# Altium schematic symbol library mainLib.SchLib: 178 symbols (part 2 of 2)
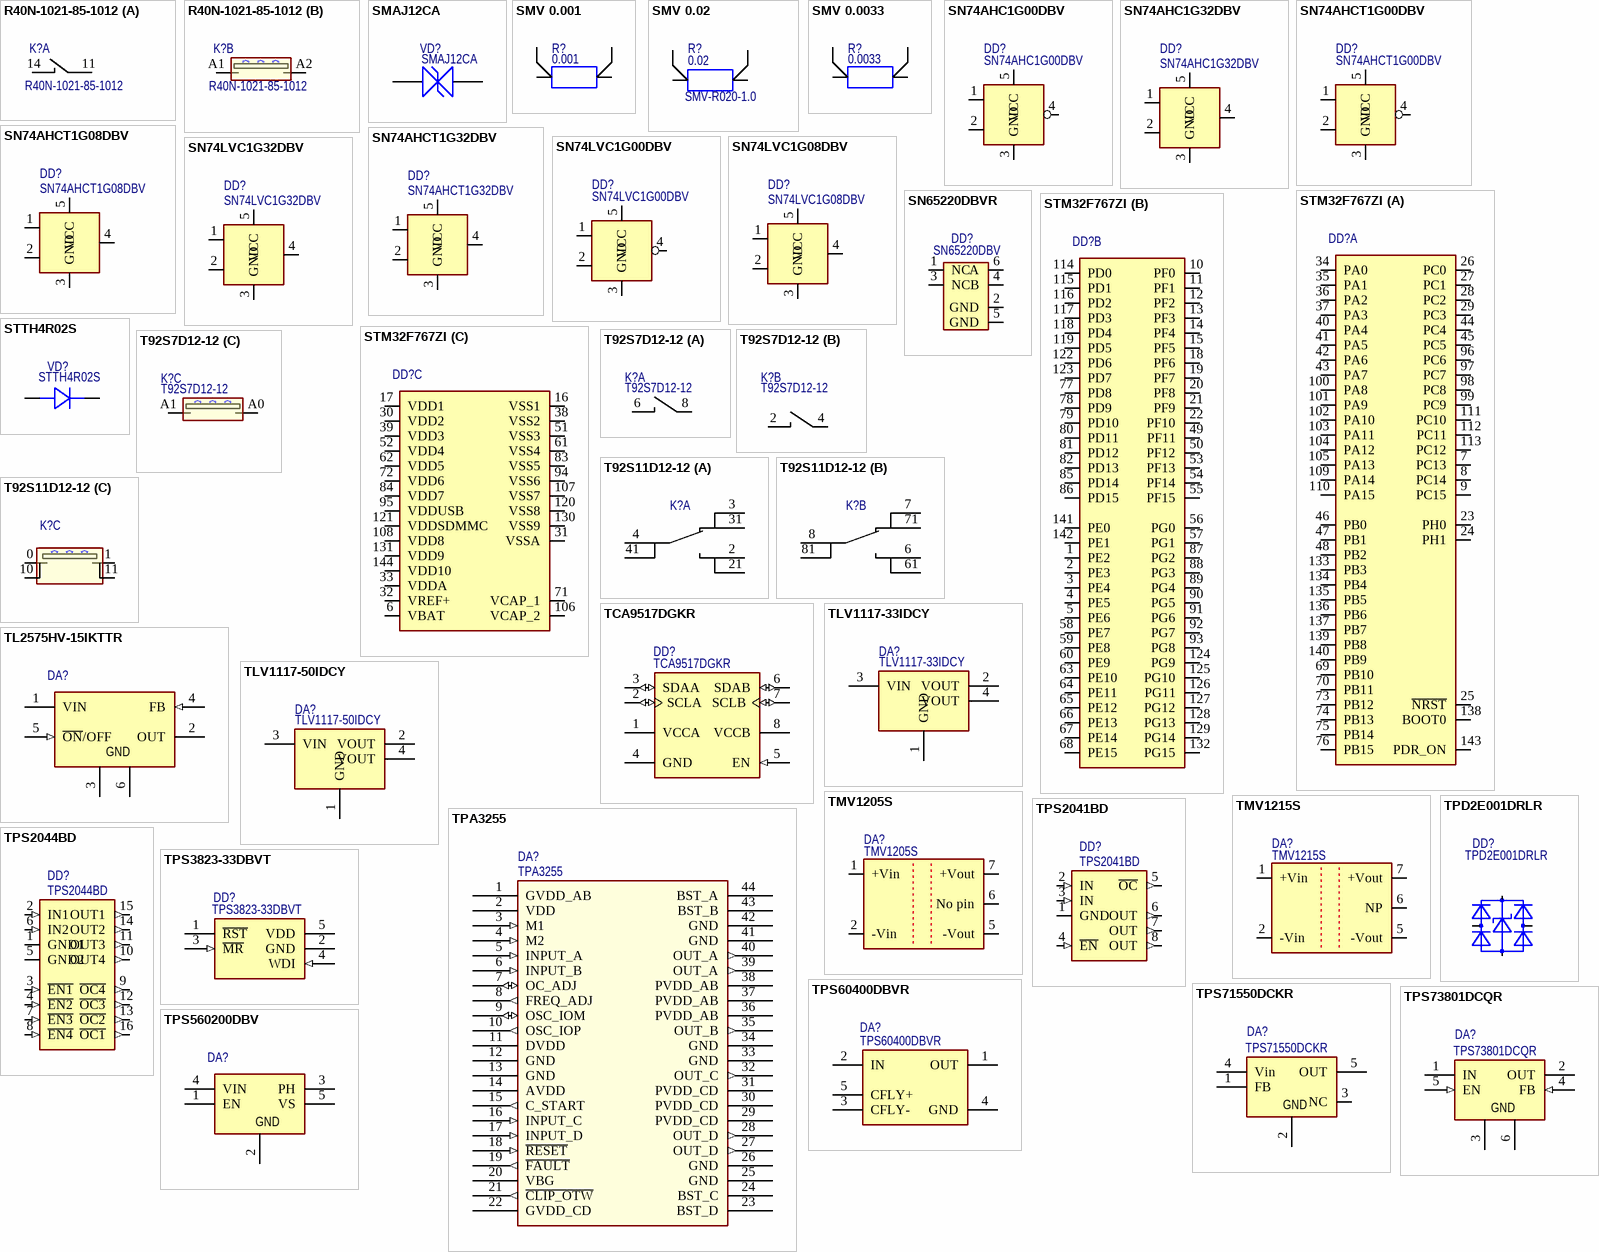
[diagram p6: symbols R40N-1021-85-1012 to TPS560200DBV]

## TPA3255
designator DA?
Power amplifier 2x315 W class-D; Manufacturer: Texas Instruments; PartNumber: TPA3255
footprint TPA3255(TSSOP-44) (TSOP, 44-Leads, Body 14,00x6,10mm, Pitch 0,64mm, IPC Medium Density)
pins: 1 GVDD_AB (power), 2 VDD (power), 3 M1 (in), 4 M2 (in), 5 INPUT_A (in), 6 INPUT_B (in), 7 OC_ADJ (io), 8 FREQ_ADJ (out), 9 OSC_IOM (io), 10 OSC_IOP (out), 11 DVDD (power), 12 GND (power), 13 GND (power), 14 AVDD (power), 15 C_START (out), 16 INPUT_C (in), 17 INPUT_D (in), 18 ~{RESET} (in), 19 ~{FAULT} (out), 20 VBG (power), 21 ~{CLIP_OTW} (out), 22 GVDD_CD (power), 23 BST_D (power), 24 BST_C (power), 25 GND (power), 26 GND (power), 27 OUT_D (out), 28 OUT_D (out), 29 PVDD_CD (power), 30 PVDD_CD (power), 31 PVDD_CD (power), 32 OUT_C (out), 33 GND (power), 34 GND (power), 35 OUT_B (out), 36 PVDD_AB (power), 37 PVDD_AB (power), 38 PVDD_AB (power), 39 OUT_A (out), 40 OUT_A (out), 41 GND (power), 42 GND (power), 43 BST_B (power), 44 BST_A (power)

## TPD2E001DRLR
designator DD?
Low-Capacitance + / - 15 kV ESD-Protection Array for High-Speed Data Interfaces, 2 Channels, -40 to +85 degC, 5-pin SOT (DRL), Green (RoHS & no Sb/Br); Manufacturer: Texas Instruments; PartNumber: TPD2E001DRLR
footprint DRL5_M (SOTFL, 5-Flat Leads, Body 1.2x1.6x0.6mm, Pitch 0.5mm, IPC Low Density)
pins: 1 VCC (power), 3 IO1, 4 GND (power), 5 IO2

## TPS2041BD
designator DD?
Current-Limited, Power-Distribution Switches; Manufacturer: Texas Instruments; PartNumber: TPS2041BD
footprint SOIC-8
pins: 1 GND (power), 2 IN (in), 3 IN (in), 4 ~{EN} (in), 5 ~{OC} (out), 6 OUT (out), 7 OUT (out), 8 OUT (out)

## TPS2044BD
designator DD?
Current-Limited, Power-Distribution Switches; Manufacturer: Texas Instruments; PartNumber: TPS2044BD
footprint SOIC127P600X175-16M (SOIC, 16-Leads, Body 9,90x3,90mm, Pitch 1,27mm, IPC Low Density)
pins: 1 GND1 (power), 2 IN1 (in), 3 ~{EN1} (in), 4 ~{EN2} (in), 5 GND2 (power), 6 IN2 (in), 7 ~{EN3} (in), 8 ~{EN4} (in), 9 ~{OC4} (out), 10 OUT4 (out), 11 OUT3 (out), 12 ~{OC3} (out), 13 ~{OC2} (out), 14 OUT2 (out), 15 OUT1 (out), 16 ~{OC1} (out)

## TPS3823-33DBVT
designator DD?  PartNumber: TPS3823-33DBVT
Supervisor with Watchdog; Manufacturer: Texas Instruments
footprint TI-DBV5_N (SOT23, 5-Leads, Body 2.9x1.6mm, Pitch 0.95mm, IPC Medium Density)
pins: 1 ~{RST} (oc) "Open-drain reset output", 2 GND (power) "Ground", 3 ~{MR} (in) "Programmable watchdog delay input", 4 WDI (in) "Watchdog timer input. This input must be driven at all times and not left floating.", 5 VDD (power) "Selectable watchdog window ratio input. This input must be tied to VDD or GND and not left floating."

## TPS60400DBVR
designator DA?
-1.8 to -5.25 V, Inverting Charge Pump, 60 mA, 1.8 to 5.25 V Input with 2-Cell Alkaline / Nixx Input, -40 to 85 degC, 5-pin SOT23 (DBV5), Green (RoHS & no Sb/Br); Manufacturer: Texas Instruments; 2-Cell Alkaline/Nixx Input: TRUE; Efficiency(Typ)(%): 99; Iout(Max)(A): 0.06; Iq(Typ)(mA): 0.125; Switching Frequency(Max)(kHz): 450; Topology: Inverting Buck/Boost; Vin(Max)(V): 5.25; Vin(Min)(V): 1.8; Vout(Min)(V): -1.6; DatasheetVersion: SLVS324A; PackageVersion: 4073253-4/K; PackageReference: DBV5; PackageDescription: 5-Pin Plastic Small Outline, Body 1.60 Г— 2.90 mm, Pitch 0.95 mm; Eco-Plan: Green (RoHS & no Sb/Br); Vout(Max)(V): -5.25; Mounting Technology: Surface Mount; Code_JEDEC: MO-178; PartNumber: TPS60400DBVR; ComponentLink1Description: Manufacturer URL; ComponentLink1URL: http://www.ti.com/; ComponentLink2Description: Datasheet; ComponentLink2URL: http://www.ti.com/general/docs/lit/getliterature.tsp?genericPartNumber=TPS60400&fileType=pdf; ComponentLink3Description: Package Specification; ComponentLink3URL: http://www.ti.com/litv/pdf/mpds018i
footprint TI-DBV5_M (SOT23, 5-Leads, Body 2.9x1.6mm, Pitch 0.95mm, IPC Low Density)
pins: 1 OUT (power) "Power output with VO = -VI Bypass OUT to GND with the output filter capacitor CO.", 2 IN (power) "Supply input. Connect to an input supply in the 1.6-V to 5.5-V range. Bypass IN to GND with a capacitor that has the same value as the flying capacitor.", 3 CFLY- "Negative terminal of the flying capacitor C(fly)", 4 GND (power) "Ground", 5 CFLY+ "Positive terminal of the flying capacitor C(fly)"

## TPS71550DCKR
designator DA?
Voltage regulator 5.0V 50mA; Manufacturer: Texas Instruments; PartNumber: TPS71550DCKR
footprint SOT-5 65P210X110-5N (SOT23, 5-Leads, Body 2,00x2,10mm, Pitch 0,65mm, IPC Medium Density)
pins: 1 FB (hiz) "Enable. The EN pin is used to put the TPS73801 regulators into a low-power shutdown state. The output is off when the EN pin is pulled low. The EN pin can be driven either by 5-V logic or open-collector gate, normally (See Datasheet)", 2 GND (power) "Ground", 3 NC (power) "Output. The output supplies power to the load. A minimum output capacitor (ceramic) of 10 uF is required to prevent oscillations. Larger output capacitors are required for applications with large transient loads to limit (See Datasheet)", 4 Vin (power) "Input. Power is supplied to the device through the IN pin. A bypass capacitor is required on this pin if the device is more than six inches away from the main input filter capacitor. In general, the output impedance of a (See Datasheet)", 5 OUT (power) "Output. The output supplies power to the load. A minimum output capacitor (ceramic) of 10 uF is required to prevent oscillations. Larger output capacitors are required for applications with large transient loads to limit (See Datasheet)"

## TPS73801DCQR
designator DA?
1A Low Noise, Low-Dropout Linear Regulator; Manufacturer: Texas Instruments; PartNumber: TPS73801DCQR
footprint TI-DCQ6_M (SOT223, 6-Leads, Body 6.5x3.5mm, Pitch 1.27mm, IPC Low Density)
pins: 1 IN (power) "Input. Power is supplied to the device through the IN pin. A bypass capacitor is required on this pin if the device is more than six inches away from the main input filter capacitor. In general, the output impedance of a (See Datasheet)", 2 OUT (power) "Output. The output supplies power to the load. A minimum output capacitor (ceramic) of 10 uF is required to prevent oscillations. Larger output capacitors are required for applications with large transient loads to limit (See Datasheet)", 3 GND (power) "Ground", 4 FB (in) "Feedback. This is the input to the error amplifier. This pin is internally clamped to +/-7 V. It has a bias current of 3 uA that flows into the pin. The FB pin voltage is 1.21 V referenced to ground, and the output voltage (See Datasheet)", 5 EN (in) "Enable. The EN pin is used to put the TPS73801 regulators into a low-power shutdown state. The output is off when the EN pin is pulled low. The EN pin can be driven either by 5-V logic or open-collector gate, normally (See Datasheet)", 6 GND (power) "Ground"

## TPS560200DBV
designator DA?
500-mA Synchronous Step-Down Converter, 4.5-V to 17-V Input; Manufacturer: Texas Instruments; PartNumber: TPS560200DBV
footprint TI-DBV5_M (SOT23, 5-Leads, Body 2.9x1.6mm, Pitch 0.95mm, IPC Low Density)
pins: 1 EN "Enable input", 2 GND (power) "Ground", 3 PH (power) "Regulated output voltage", 4 VIN (power) "Input supply voltage", 5 VS "No connected"

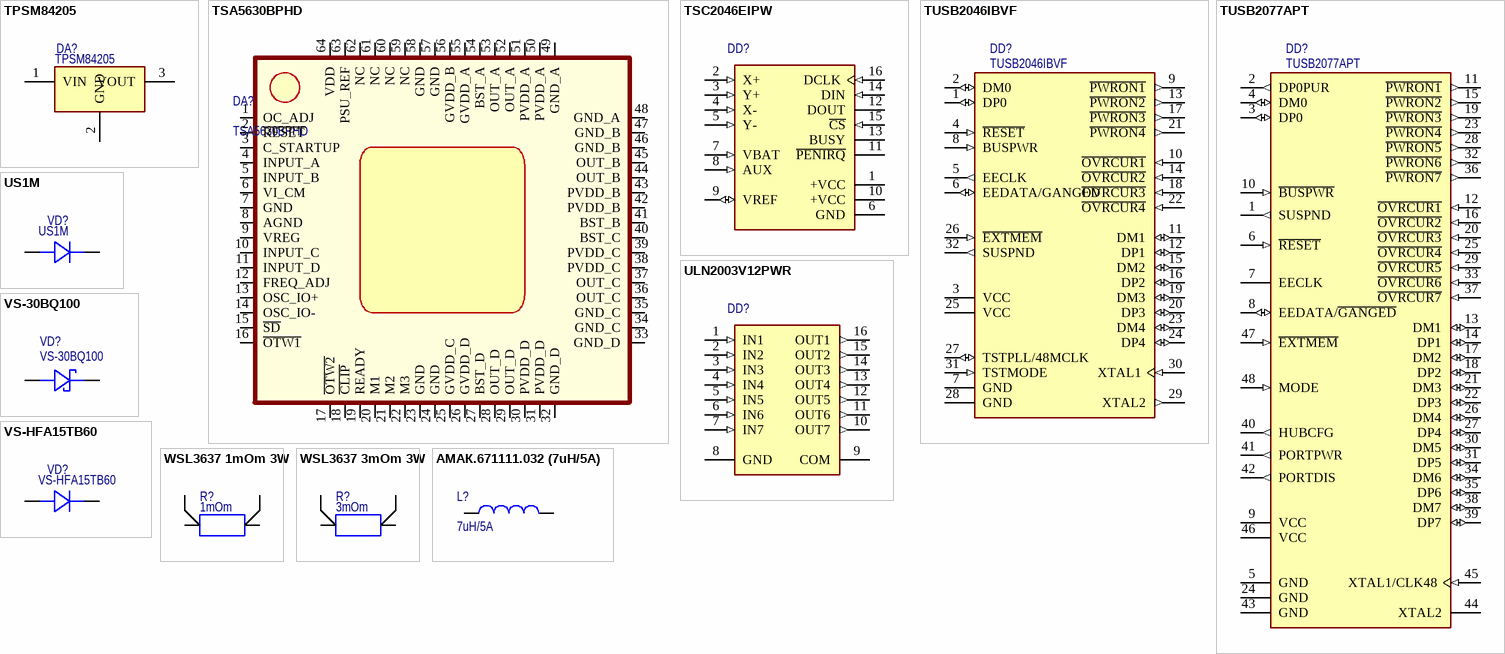
[diagram p5: symbols TPSM84205 to АМАК.671111.032 (7uH/5A)]

## TPSM84205
designator DA?
1.5A 5Vout up to 28 Vin StepDown module; Manufacturer: Texas Instrument; PartNumber: TPSM84205
footprint EAB (SIP DCDC Module)
pins: 1 VIN (power), 2 GND (power), 3 VOUT (power)

## TSA5630BPHD
designator DA?
Power amplifier 2x300 W class-D; Manufacturer: Texas Instruments; PartNumber: TSA5630BPHD
footprint TI-PHD64_M (QFP, 64-Leads, Body 14x14mm, Pitch 0.8mm, IPC Low Density)
pins: 1 OC_ADJ, 2 ~{RESET}, 3 C_STARTUP, 4 INPUT_A, 5 INPUT_B, 6 VI_CM, 7 GND, 8 AGND, 9 VREG, 10 INPUT_C, 11 INPUT_D, 12 FREQ_ADJ, 13 OSC_IO+, 14 OSC_IO-, 15 ~{SD}, 16 ~{OTW1}, 17 ~{OTW2}, 18 ~{CLIP}, 19 READY, 20 M1, 21 M2, 22 M3, 23 GND, 24 GND, 25 GVDD_C, 26 GVDD_D, 27 BST_D, 28 OUT_D, 29 OUT_D, 30 PVDD_D, 31 PVDD_D, 32 GND_D, 33 GND_D, 34 GND_C, 35 GND_C, 36 OUT_C, 37 OUT_C, 38 PVDD_C, 39 PVDD_C, 40 BST_C, 41 BST_B, 42 PVDD_B, 43 PVDD_B, 44 OUT_B, 45 OUT_B, 46 GND_B, 47 GND_B, 48 GND_A, 49 GND_A, 50 PVDD_A, 51 PVDD_A, 52 OUT_A, 53 OUT_A, 54 BST_A, 55 GVDD_A, 56 GVDD_B, 57 GND, 58 GND, 59 NC, 60 NC, 61 NC, 62 NC, 63 PSU_REF, 64 VDD

## TSC2046EIPW
designator DD?
Touch Screen Controller with Serial Interface; Manufacturer: Texas Instruments; PartNumber: TSC2046EIPW
footprint PW0016A_M (SOP, 16-Leads, Body 5.1x4.5mm, Pitch 0.65mm, IPC Low Density)
pins: 1 +VCC (power) "Power Supply Input. The +VCC range for the AD7873 is from 2.2 V to 5.25 V. Both +VCC pins should be connected directly together.", 2 X+ (in) "X+ Position Input. ADC Input Channel 1.", 3 Y+ (in) "Y+ Position Input. ADC Input Channel 2.", 4 X- (in) "X- Position Input.", 5 Y- (in) "Y- Position Input. ADC Input Channel 3.", 6 GND (power) "Analog Ground. Ground reference point for all circuitry on the AD7873. All analog input signals and any external reference signals should be referred to this GND voltage.", 7 VBAT (in) "Battery Monitor Input. ADC Input Channel 4.", 8 AUX (in) "Auxiliary Input. ADC Input Channel 5.", 9 VREF (io) "Reference Output for the AD7873. Alternatively, an external reference can be applied to this input. The voltage range for the external reference is 1.0 V to +VCC. For specified performance, it is 2.5 V on the AD7873. The (See Datasheet)", 10 +VCC (power) "Power Supply Input. The +VCC range for the AD7873 is from 2.2 V to 5.25 V. Both +VCC pins should be connected directly together.", 11 ~{PENIRQ} (oc) "Pen Interrupt. CMOS logic open-drain output (requires 10 k ohm to 100 k ohm pull-up resistor externally).", 12 DOUT (hiz) "Data Out. Logic output. The conversion result from the AD7873 is provided on this output as a serial data stream. The bits are clocked out on the falling edge of the DCLK input. This output is high impedance when C\S\ is (See Datasheet)", 13 BUSY (hiz) "BUSY Output. Logic output. This output is high impedance when C\S\ is high.", 14 DIN (in) "Data In. Logic Input. Data to be written to the AD7873 control register is provided on this input and is clocked into the register on the rising edge of DCLK (see the Control Register section).", 15 ~{CS} (in) "Chip Select Input. Active low logic input. This input provides the dual function of initiating conversions on the AD7873 and enabling the serial input/output register.", 16 DCLK (in) "External Clock Input. Logic input. DCLK provides the serial clock for accessing data from the part. This clock input is also used as the clock source for the AD7873 conversion process."

## TUSB2046IBVF
designator DD?
4-Port Hub for the Universal Serial Bus With Optional  Serial EEPROM Interface; Manufacturer: Texas Instruments; Supply Voltage(s)(V): 3.3; PartNumber: TUSB2046IBVF
footprint LQFP-32 (TUSB2046) (TQFP, 32-Leads, Body 7,00x7,00mm, Pitch 0,80mm, IPC Low Density)
pins: 1 DP0 (io) "Root port USB differential data plus. DP0 paired with DM0 constitutes the upstream USB port.", 2 DM0 (io) "Root port USB differential data minus. DM0 paired with DP0 constitutes the upstream USB port", 3 VCC (power) "3.3-V supply voltage", 4 ~{RESET} (in) "R\E\S\E\T\ is an active low TTL input with hysteresis and must be asserted at power up. When R\E\S\E\T\ is asserted, all logic is initialized. Generally, a reset with a pulse width between 100 \E\S\E\T\ is an active low TTL (See Datasheet)", 5 EECLK (out) "EEPROM serial clock. When E\X\T\M\E\M\ is high, the EEPROM interface is disabled. The EECLK terminal is disabled and must be left floating (unconnected). When E\X\T\M\E\M\ is low, EECLK acts as a 3-state serial clock output (See Datasheet)", 6 EEDATA/GANGED (io) "EEPROM serial data/power-management mode indicator. When E\X\T\M\E\M\ is high, EEDATA/GANGED selects between ganged or per-port power overcurrent detection for the downstream ports. When E\X\T\M\E\M\ is low, (See Datasheet)", 7 GND (power) "GND terminals must be tied to ground for proper operation.", 8 BUSPWR (in) "Power source indicator. B\U\S\P\W\R\ is an active-low input that indicates whether the downstream ports source their power from the USB cable or a local power supply. For the bus-power mode, this terminal must be pulled low, (See Datasheet)", 9 ~{PWRON1} (out) "Power-on/-off control signals. P\W\R\O\N\1\-P\W\R\O\N\7\ are active low, push-pull outputs that enables the external power switch device. Push-pull outputs eliminate the pullup resistors which open-drain outputs require. (See Datasheet)", 10 ~{OVRCUR1} (in) "Overcurrent input. O\V\R\C\U\R\1\-O\V\R\C\U\R\7\ are active low. For per-port overcurrent detection, one overcurrent input is available for each of the seven downstream ports. In the ganged mode, any O\V\R\C\U\R\ input may (See Datasheet)", 11 DM1 (io) "USB differential data minus. DM1-DM7 paired with DP1-DP7 support up to four downstream USB ports.", 12 DP1 (io) "USB differential data plus. DP1-DP7 paired with DM1-DM7 support up to four downstream USB ports.", 13 ~{PWRON2} (out) "Power-on/-off control signals. P\W\R\O\N\1\-P\W\R\O\N\7\ are active low, push-pull outputs that enables the external power switch device. Push-pull outputs eliminate the pullup resistors which open-drain outputs require. (See Datasheet)", 14 ~{OVRCUR2} (in) "Overcurrent input. O\V\R\C\U\R\1\-O\V\R\C\U\R\7\ are active low. For per-port overcurrent detection, one overcurrent input is available for each of the seven downstream ports. In the ganged mode, any O\V\R\C\U\R\ input may (See Datasheet)", 15 DM2 (io) "USB differential data minus. DM1-DM7 paired with DP1-DP7 support up to four downstream USB ports.", 16 DP2 (io) "USB differential data plus. DP1-DP7 paired with DM1-DM7 support up to four downstream USB ports.", 17 ~{PWRON3} (out) "Power-on/-off control signals. P\W\R\O\N\1\-P\W\R\O\N\7\ are active low, push-pull outputs that enables the external power switch device. Push-pull outputs eliminate the pullup resistors which open-drain outputs require. (See Datasheet)", 18 ~{OVRCUR3} (in) "Overcurrent input. O\V\R\C\U\R\1\-O\V\R\C\U\R\7\ are active low. For per-port overcurrent detection, one overcurrent input is available for each of the seven downstream ports. In the ganged mode, any O\V\R\C\U\R\ input may (See Datasheet)", 19 DM3 (io) "USB differential data minus. DM1-DM7 paired with DP1-DP7 support up to four downstream USB ports.", 20 DP3 (io) "USB differential data plus. DP1-DP7 paired with DM1-DM7 support up to four downstream USB ports.", 21 ~{PWRON4} (out) "Power-on/-off control signals. P\W\R\O\N\1\-P\W\R\O\N\7\ are active low, push-pull outputs that enables the external power switch device. Push-pull outputs eliminate the pullup resistors which open-drain outputs require. (See Datasheet)", 22 ~{OVRCUR4} (in) "Overcurrent input. O\V\R\C\U\R\1\-O\V\R\C\U\R\7\ are active low. For per-port overcurrent detection, one overcurrent input is available for each of the seven downstream ports. In the ganged mode, any O\V\R\C\U\R\ input may (See Datasheet)", 23 DM4 (io) "USB differential data minus. DM1-DM7 paired with DP1-DP7 support up to four downstream USB ports.", 24 DP4 (io) "USB differential data plus. DP1-DP7 paired with DM1-DM7 support up to four downstream USB ports.", 25 VCC (power) "3.3-V supply voltage", 26 ~{EXTMEM} (in) "When E\X\T\M\E\M\ is high, the serial EEPROM interface of the device is disabled. When E\X\T\M\E\M\ is low, terminals 7 and 8 are configured as the clock and data terminals of the serial EEPROM interface, respectively.", 27 TSTPLL/48MCLK (io) "Test/48-MHz clock input.", 28 GND (power) "GND terminals must be tied to ground for proper operation.", 29 XTAL2 (out) "Crystal 2. XTAL2 is a 6-MHz crystal output. This terminal must be left open when using an oscillator", 30 XTAL1 (in) "Crystal 1/48-MHz clock input. When MODE is low, XTAL1/CLK48 is a 6-MHz crystal input with 50% duty cycle. An internal APLL generates the 48-MHz and 12-MHz clocks used internally by the ASIC logic. When MODE is high, (See Datasheet)", 31 TSTMODE (in) "TSTMODE is used as a test terminal during production testing", 32 SUSPND (out) "Suspend status. SUSPND is an active high output available for external logic power-down operations. During the suspend mode, SUSPND is high. SUSPND is low for normal operation."

## TUSB2077APT
designator DD?
7-Port USB Hub with Optional Serial EEPROM Interface, 3.3V, 0 to 70 degC, 48-Pin LQFP (PT), Green (RoHS & no Sb/Br); Manufacturer: Texas Instruments; USB Speed: Full; USB Full Speed: True; Supply Voltage(s)(V): 3.3; SubFamily: USB Hub Controller; ComponentLink1Description: Datasheet; ComponentLink2Description: Package Specification; DatasheetVersion: SLLS414D; ComponentLink1URL: http://www.ti.com/general/docs/lit/getliterature.tsp?genericPartNumber=TUSB2077A&fileType=pdf; Integrated MCU Architecture: N/A; ComponentLink2URL: http://www.ti.com/litv/pdf/mtqf003a; Code_JEDEC: MS-026; PackageVersion: revC, Nov-1996; Eco-Plan: Green (RoHS & no Sb/Br); PartNumber: TUSB2077APT; PackageDescription: 48-Pin Plastic Quad Flat Pack, 7 x 7 mm Body, 0.5 mm Pitch; Mounting Technology: Surface Mount; PackageReference: PT0048A
footprint PT0048A_M (QFP, 48-Leads, Body 7x7mm, Pitch 0.5mm, IPC Low Density)
pins: 1 SUSPND (out) "Suspend status. SUSPND is an active high output available for external logic power-down operations. During the suspend mode, SUSPND is high. SUSPND is low for normal operation.", 2 DP0PUR (out) "Pullup resistor connection. When a system reset happens (R\E\S\E\T\ being driven to low, but not USB reset) or any logic level change on B\U\S\P\W\R\ terminal, DP0PUR output is inactive (floating) until the internal counter (See Datasheet)", 3 DP0 (io) "Root port USB differential data plus. DP0 paired with DM0 constitutes the upstream USB port.", 4 DM0 (io) "Root port USB differential data minus. DM0 paired with DP0 constitutes the upstream USB port", 5 GND (power) "GND terminals must be tied to ground for proper operation.", 6 ~{RESET} (in) "R\E\S\E\T\ is an active low TTL input with hysteresis and must be asserted at power up. When R\E\S\E\T\ is asserted, all logic is initialized. Generally, a reset with a pulse width between 100 \E\S\E\T\ is an active low TTL (See Datasheet)", 7 EECLK (hiz) "EEPROM serial clock. When E\X\T\M\E\M\ is high, the EEPROM interface is disabled. The EECLK terminal is disabled and must be left floating (unconnected). When E\X\T\M\E\M\ is low, EECLK acts as a 3-state serial clock output (See Datasheet)", 8 EEDATA/~{GANGED} (io) "EEPROM serial data/power-management mode indicator. When E\X\T\M\E\M\ is high, EEDATA/GANGED selects between ganged or per-port power overcurrent detection for the downstream ports. When E\X\T\M\E\M\ is low, (See Datasheet)", 9 VCC (power) "3.3-V supply voltage", 10 ~{BUSPWR} (in) "Power source indicator. B\U\S\P\W\R\ is an active-low input that indicates whether the downstream ports source their power from the USB cable or a local power supply. For the bus-power mode, this terminal must be pulled low, (See Datasheet)", 11 ~{PWRON1} (out) "Power-on/-off control signals. P\W\R\O\N\1\-P\W\R\O\N\7\ are active low, push-pull outputs that enables the external power switch device. Push-pull outputs eliminate the pullup resistors which open-drain outputs require. (See Datasheet)", 12 ~{OVRCUR1} (in) "Overcurrent input. O\V\R\C\U\R\1\-O\V\R\C\U\R\7\ are active low. For per-port overcurrent detection, one overcurrent input is available for each of the seven downstream ports. In the ganged mode, any O\V\R\C\U\R\ input may (See Datasheet)", 13 DM1 (io) "USB differential data minus. DM1-DM7 paired with DP1-DP7 support up to four downstream USB ports.", 14 DP1 (io) "USB differential data plus. DP1-DP7 paired with DM1-DM7 support up to four downstream USB ports.", 15 ~{PWRON2} (out) "Power-on/-off control signals. P\W\R\O\N\1\-P\W\R\O\N\7\ are active low, push-pull outputs that enables the external power switch device. Push-pull outputs eliminate the pullup resistors which open-drain outputs require. (See Datasheet)", 16 ~{OVRCUR2} (in) "Overcurrent input. O\V\R\C\U\R\1\-O\V\R\C\U\R\7\ are active low. For per-port overcurrent detection, one overcurrent input is available for each of the seven downstream ports. In the ganged mode, any O\V\R\C\U\R\ input may (See Datasheet)", 17 DM2 (io) "USB differential data minus. DM1-DM7 paired with DP1-DP7 support up to four downstream USB ports.", 18 DP2 (io) "USB differential data plus. DP1-DP7 paired with DM1-DM7 support up to four downstream USB ports.", 19 ~{PWRON3} (out) "Power-on/-off control signals. P\W\R\O\N\1\-P\W\R\O\N\7\ are active low, push-pull outputs that enables the external power switch device. Push-pull outputs eliminate the pullup resistors which open-drain outputs require. (See Datasheet)", 20 ~{OVRCUR3} (in) "Overcurrent input. O\V\R\C\U\R\1\-O\V\R\C\U\R\7\ are active low. For per-port overcurrent detection, one overcurrent input is available for each of the seven downstream ports. In the ganged mode, any O\V\R\C\U\R\ input may (See Datasheet)", 21 DM3 (io) "USB differential data minus. DM1-DM7 paired with DP1-DP7 support up to four downstream USB ports.", 22 DP3 (io) "USB differential data plus. DP1-DP7 paired with DM1-DM7 support up to four downstream USB ports.", 23 ~{PWRON4} (out) "Power-on/-off control signals. P\W\R\O\N\1\-P\W\R\O\N\7\ are active low, push-pull outputs that enables the external power switch device. Push-pull outputs eliminate the pullup resistors which open-drain outputs require. (See Datasheet)", 24 GND (power) "GND terminals must be tied to ground for proper operation.", 25 ~{OVRCUR4} (in) "Overcurrent input. O\V\R\C\U\R\1\-O\V\R\C\U\R\7\ are active low. For per-port overcurrent detection, one overcurrent input is available for each of the seven downstream ports. In the ganged mode, any O\V\R\C\U\R\ input may (See Datasheet)", 26 DM4 (io) "USB differential data minus. DM1-DM7 paired with DP1-DP7 support up to four downstream USB ports.", 27 DP4 (io) "USB differential data plus. DP1-DP7 paired with DM1-DM7 support up to four downstream USB ports.", 28 ~{PWRON5} (out) "Power-on/-off control signals. P\W\R\O\N\1\-P\W\R\O\N\7\ are active low, push-pull outputs that enables the external power switch device. Push-pull outputs eliminate the pullup resistors which open-drain outputs require. (See Datasheet)", 29 ~{OVRCUR5} (in) "Overcurrent input. O\V\R\C\U\R\1\-O\V\R\C\U\R\7\ are active low. For per-port overcurrent detection, one overcurrent input is available for each of the seven downstream ports. In the ganged mode, any O\V\R\C\U\R\ input may (See Datasheet)", 30 DM5 (io) "USB differential data minus. DM1-DM7 paired with DP1-DP7 support up to four downstream USB ports.", 31 DP5 (io) "USB differential data plus. DP1-DP7 paired with DM1-DM7 support up to four downstream USB ports.", 32 ~{PWRON6} (out) "Power-on/-off control signals. P\W\R\O\N\1\-P\W\R\O\N\7\ are active low, push-pull outputs that enables the external power switch device. Push-pull outputs eliminate the pullup resistors which open-drain outputs require. (See Datasheet)", 33 ~{OVRCUR6} (in) "Overcurrent input. O\V\R\C\U\R\1\-O\V\R\C\U\R\7\ are active low. For per-port overcurrent detection, one overcurrent input is available for each of the seven downstream ports. In the ganged mode, any O\V\R\C\U\R\ input may (See Datasheet)", 34 DM6 (io) "USB differential data minus. DM1-DM7 paired with DP1-DP7 support up to four downstream USB ports.", 35 DP6 (io) "USB differential data plus. DP1-DP7 paired with DM1-DM7 support up to four downstream USB ports.", 36 ~{PWRON7} (out) "Power-on/-off control signals. P\W\R\O\N\1\-P\W\R\O\N\7\ are active low, push-pull outputs that enables the external power switch device. Push-pull outputs eliminate the pullup resistors which open-drain outputs require. (See Datasheet)", 37 ~{OVRCUR7} (in) "Overcurrent input. O\V\R\C\U\R\1\-O\V\R\C\U\R\7\ are active low. For per-port overcurrent detection, one overcurrent input is available for each of the seven downstream ports. In the ganged mode, any O\V\R\C\U\R\ input may (See Datasheet)", 38 DM7 (io) "USB differential data minus. DM1-DM7 paired with DP1-DP7 support up to four downstream USB ports.", 39 DP7 (io) "USB differential data plus. DP1-DP7 paired with DM1-DM7 support up to four downstream USB ports.", 40 HUBCFG (out) "Hub configured. Used to control LED indicator. When the hub is configured, HUBCFG is high, which can be used to turn on a green LED. When the hub is not configured, HUBCFG is low, which can be used to turn on a red LED.", 41 PORTPWR (out) "Any port powered. Used to control LED indicator. When any port is powered on, PORTPWR is high, which can be used to turn on a green LED. When all ports are off, PORTPWR is low, which can be used to turn on a red LED.", 42 PORTDIS (out) "No ports disabled. PORTDIS is used for LED indicator control. When no port is disabled, PORTDIS is high, which can be used to turn on a green LED. When any port is disabled, PORTDIS is low, which can be used to turn on a red (See Datasheet)", 43 GND (power) "GND terminals must be tied to ground for proper operation.", 44 XTAL2 "Crystal 2. XTAL2 is a 6-MHz crystal output. This terminal must be left open when using an oscillator", 45 XTAL1/CLK48 (in) "Crystal 1/48-MHz clock input. When MODE is low, XTAL1/CLK48 is a 6-MHz crystal input with 50% duty cycle. An internal APLL generates the 48-MHz and 12-MHz clocks used internally by the ASIC logic. When MODE is high, (See Datasheet)", 46 VCC (power) "3.3-V supply voltage", 47 ~{EXTMEM} (in) "When E\X\T\M\E\M\ is high, the serial EEPROM interface of the device is disabled. When E\X\T\M\E\M\ is low, terminals 7 and 8 are configured as the clock and data terminals of the serial EEPROM interface, respectively.", 48 MODE (in) "Mode select. When MODE is low, the APLL output clock is selected as the clock source to drive the internal core of the chip and 6-MHz crystal or oscillator can used. When MODE is high, the clock on XTAL1/CLK48 is selected as (See Datasheet)"

## ULN2003V12PWR
designator DD?
Relay driver, 140mA 16V CMOS; Manufacturer: Texas Instruments; PartNumber: ULN2003V12PWR
footprint TSOP16 (TSOP, 16-Leads, Body 5,00x4,40mm, Pitch 0,65mm, IPC Medium Density)
pins: 1 IN1 (in) "X+ Position Input. ADC Input Channel 1.", 2 IN2 (in) "X+ Position Input. ADC Input Channel 1.", 3 IN3 (in) "X+ Position Input. ADC Input Channel 1.", 4 IN4 (in) "X+ Position Input. ADC Input Channel 1.", 5 IN5 (in) "X+ Position Input. ADC Input Channel 1.", 6 IN6 (in) "X+ Position Input. ADC Input Channel 1.", 7 IN7 (in) "X+ Position Input. ADC Input Channel 1.", 8 GND (power) "Analog Ground. Ground reference point for all circuitry on the AD7873. All analog input signals and any external reference signals should be referred to this GND voltage.", 9 COM (power) "Analog Ground. Ground reference point for all circuitry on the AD7873. All analog input signals and any external reference signals should be referred to this GND voltage.", 10 OUT7 (out) "X+ Position Input. ADC Input Channel 1.", 11 OUT6 (out) "X+ Position Input. ADC Input Channel 1.", 12 OUT5 (out) "X+ Position Input. ADC Input Channel 1.", 13 OUT4 (out) "X+ Position Input. ADC Input Channel 1.", 14 OUT3 (out) "X+ Position Input. ADC Input Channel 1.", 15 OUT2 (out) "X+ Position Input. ADC Input Channel 1.", 16  OUT1 (out) "X+ Position Input. ADC Input Channel 1."

## US1M
designator VD?
Vr=1000V If=1A Ultrafast; Manufacturer: Vishay; PartNumber: US1M
footprint DO-214AC (Molded Diode, 2-Leads, Body 5,10x2,67mm, IPC Medium Density)
pins: 1 ANODE, 2 CATHODE

## VS-30BQ100
designator VD?
3A/60V Schottky Diode (SMC); Manufacturer: VISHAY; PartNumber: VS-30BQ100
footprint SMC_VD_L8.1_W6.2 (Schottky Diode, 2-Leads, Body 8,13x6,52mm, IPC Low Density)
pins: 1 ANODE, 2 CATHODE

## VS-HFA15TB60
designator VD?
If=15A, Vf=1.2V Vrrm=600V Diode (TO220AB); Manufacturer: Vishay; PartNumber: VS-HFA15TB60
footprint TO220-2pins (FM, 2-Leads, Body 10x4.4mm, Pitch 5.08mm)
pins: 1 CATHODE, 2 ANODE

## WSL3637 1mOm 3W
designator R?, comment 1mOm
WSL3637 1mOm 3W 1% 75ppm; PartNumber: WSL36371L000F; Manufacturer: Vishay; Value: 1mOm
footprint WSL3637 1mOm
pins: 1 I1, 2 E1, 3 I2, 4 E2

## WSL3637 3mOm 3W
designator R?, comment 3mOm
WSL3637 1mOm 3W 1% 50ppm; PartNumber: WSL36373L000F; Manufacturer: Vishay; Value: 3mOm
footprint WSL3637 3mOm
pins: 1 I1, 2 E1, 3 I2, 4 E2

## АМАК.671111.032 (7uH/5A)
designator L?, comment 7uH/5A
7uH/5A 5% Micrometal T94-2 (D28.5 W11.5); Manufacturer: OLTEST; PartNumber: АМАК.671111.032; Value: 7uH/5A
footprint АМАК.671111.032 (7uH/5A)
pins: 1, 2